# Altium footprint library KCSC02-102.PcbLib: 1 footprints
Each footprint in its own frame and in the unit in brackets; x right, y up, seen from the top. Pads: shape width x height; smd on the part's side, far side on the other; paste and mask are expansions set on the pad; w line width, h text height; cw(c..) or ccw(c..) is an arc to the next point about the centre after c.
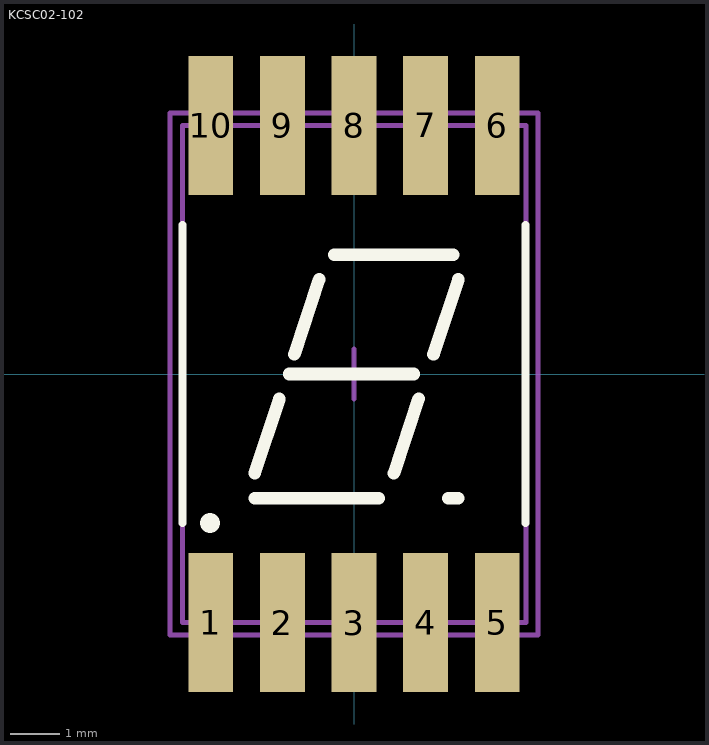
[diagram p0: the footprint, top view; thin cyan lines are the x and y axes]

## KCSC02-102 [mm] "LED INDICATOR"
pads (10):
  rect 0.9x2.8 smd: 1(-2.88,-5) 2(-1.44,-5) 3(0,-5) 4(1.44,-5) 5(2.88,-5) 6(2.88,5) 7(1.44,5) 8(0,5) 9(-1.44,5) 10(-2.88,5)
Top Overlay:
  lines w0.16: -3.45,-3 -3.45,3 ; 3.45,-3 3.45,3
  lines w0.254: -2,-2.5 0.5,-2.5 ; -2,-2 -1.5,-0.5 ; -1.3,0 1.2,0 ; -1.2,0.4 -0.7,1.9 ; -0.4,2.4 2,2.4 ; 0.8,-2 1.3,-0.5 ; 1.6,0.4 2.1,1.9 ; 1.9,-2.5 2.1,-2.5
  lines w0.4: -2.9,-3 -2.9,-3
Mechanical 13:
  lines w0.1: 3.45,-5 -3.45,-5 -3.45,5 3.45,5 ; 3.46,-5 3.46,5
Mechanical 15:
  lines w0.1: -0.5,0 0.5,0 ; 0,-0.5 0,0.5 ; -3.7,-5.25 -3.7,5.25 3.7,5.25 3.7,-5.25 -3.7,-5.25
3D body "GS-S2011AB.STEP": height 3, standoff -0.05, extent -3.45,-5 3.46,5